# EAGLE library part ISO7740 (library ICs)
General Purpose Digital Isolator 3000Vrms 4 Channel 100Mbps 85kV/µs CMTI 16-SSOP (0.154", 3.90mm Width)
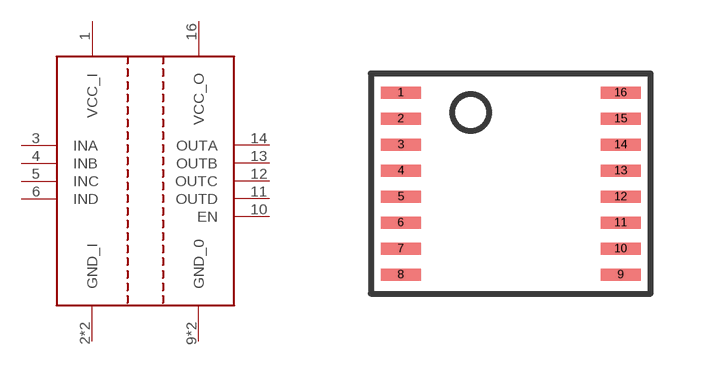
[diagram p245: symbol with the pads of SSOP16-4MM; footprint SSOP16-4MM]

Designator prefix U

## ISO7740DBQ (DIGIKEY: 296-48138-1-ND; HEIGHT: 1.5; PRICE_PER: 2.49; VALUE: ISO7740)  [SSOP16-4MM]
1  VCC_I
2  GND_I
3  INA
4  INB
5  INC
6  IND
8  GND_I
9  GND_0
10  EN
11  OUTD
12  OUTC
13  OUTB
14  OUTA
15  GND_0
16  VCC_O

## Footprint SSOP16-4MM (pad centres in mm)
smd 1 x 0.3: 1 -2.75,2.275; 2 -2.75,1.625; 3 -2.75,0.975; 4 -2.75,0.325; 5 -2.75,-0.325; 6 -2.75,-0.975; 7 -2.75,-1.625; 8 -2.75,-2.275; 9 2.75,-2.275; 10 2.75,-1.625; 11 2.75,-0.975; 12 2.75,-0.325; 13 2.75,0.325; 14 2.75,0.975; 15 2.75,1.625; 16 2.75,2.275